# Altium schematic symbol library ED_Switch.SchLib: 2 symbols
Pins are listed as number, name and electrical type; pins without a type are passive.

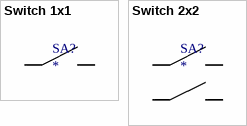
[diagram p0: symbols Switch 1x1 to Switch 2x2]

## Switch 1x1
designator SA?
Контакт замыкающий (выключатель); Order: Выключатель*, *, *; Manufacturer: *; ManufacturerCountry: *; Value: *
pins: 1, 2

## Switch 2x2
designator SA?
Контакт замыкающий (выключатель); Order: Выключатель*, *, *; Manufacturer: *; ManufacturerCountry: *; Value: *
pins: 1, 2, 3, 4